# Altium footprint library Footprint.PcbLib: 17 footprints (part 2 of 2)
Each footprint in its own frame and in the unit in brackets; x right, y up, seen from the top. Pads: shape width x height; smd on the part's side, far side on the other; paste and mask are expansions set on the pad; w line width, h text height; cw(c..) or ccw(c..) is an arc to the next point about the centre after c.
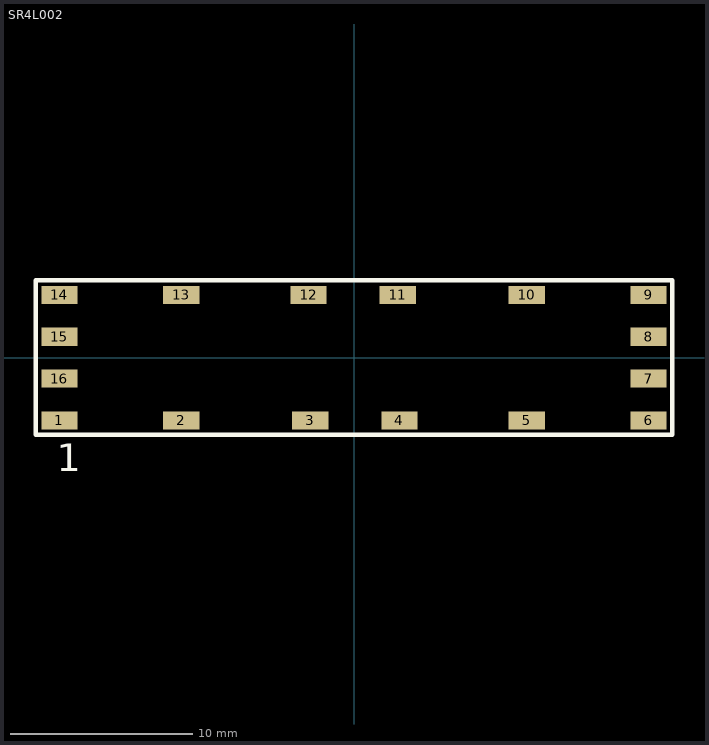
[diagram p1: the footprint, top view; thin cyan lines are the x and y axes]

## SR4L002 [mm] "Antennas LTE 700-LTE 2400MHz Max RL -6dB"
pads (16):
  rect 2x1 smd: 1(-16.2,-3.45) 2(-9.5,-3.45) 3(-2.4,-3.45) 4(2.5,-3.45) 5(9.5,-3.45) 6(16.2,-3.45) 7(16.2,-1.15) 8(16.2,1.15) 9(16.2,3.45) 10(9.5,3.45) 11(2.4,3.45) 12(-2.5,3.45) 13(-9.5,3.45) 14(-16.2,3.45) 15(-16.2,1.15) 16(-16.2,-1.15)
Top Overlay:
  lines w0.254: -17.5,-4.25 17.5,-4.25 17.5,4.25 -17.5,4.25 -17.5,-4.25
  text "1" at -16.35,-6.25 h1.52
3D body: height 3.3, standoff 0, extent -17.5,-4.25 17.5,4.25